# EAGLE library part SQT-115-01-F-D-RA (library SamacSys_Parts)
30 Position, Cost Effective Rugged PCB Sockets, 2.00mm pitch, RA ver. Source: Datasheet <http://suddendocs.samtec.com/prints/sqt-1xx-xx-xxx-x-xxx-xxx-mkt.pdf>
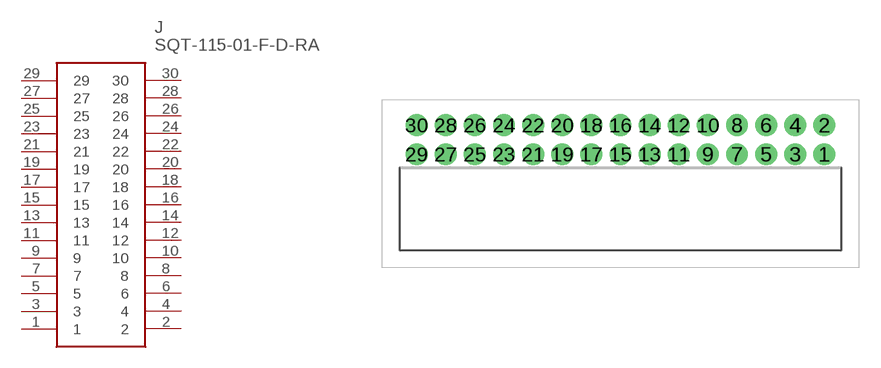
[diagram p3: symbol with the pads of SQT-115-01-XXX-D-RA; footprint SQT-115-01-XXX-D-RA]

Designator prefix J

## SQT-115-01-F-D-RA (DESCRIPTION: 30 Position, Cost Effective Rugged PCB Sockets, 2.00mm pitch, RA ver.; HEIGHT: mm; MANUFACTURER_NAME: SAMTEC; MANUFACTURER_PART_NUMBER: SQT-115-01-F-D-RA)  [SQT-115-01-XXX-D-RA]
1  1
2  2
3  3
4  4
5  5
6  6
7  7
8  8
9  9
10  10
11  11
12  12
13  13
14  14
15  15
16  16
17  17
18  18
19  19
20  20
21  21
22  22
23  23
24  24
25  25
26  26
27  27
28  28
29  29
30  30

## Footprint SQT-115-01-XXX-D-RA (pad centres in mm)
SQT-115-01-XXX-D-RA
drill 0.99 pad 1.5: 1 0,0; 2 0,2; 3 -2,0; 4 -2,2; 5 -4,0; 6 -4,2; 7 -6,0; 8 -6,2; 9 -8,0; 10 -8,2; 11 -10,0; 12 -10,2; 13 -12,0; 14 -12,2; 15 -14,0; 16 -14,2; 17 -16,0; 18 -16,2; 19 -18,0; 20 -18,2; 21 -20,0; 22 -20,2; 23 -22,0; 24 -22,2; 25 -24,0; 26 -24,2; 27 -26,0; 28 -26,2; 29 -28,0; 30 -28,2